# Altium integrated library Inductor Power Shielded.IntLib: 1 symbol
Pins are listed as number, name and electrical type; pins without a type are passive.

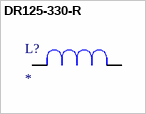
[diagram p0: symbol DR125-330-R]

## DR125-330-R
designator L?
Inductor, Wirewound, Shielded, 33uH, 50.5mOhm, 3.28A, Surface Mount, DR Series | Eaton Electronics DR125-330-R; SnapEDA_Link: https://www.snapeda.com/parts/DR125-330-R/Eaton/view-part/?ref=snap; Package: Non Standard Coiltronics / Eaton; Value: *; MF: Eaton; MP: DR125-330-R; Check_prices: https://www.snapeda.com/parts/DR125-330-R/Eaton/view-part/?ref=eda
footprint INDM125125X600N
pins: 1, 2